# Altium schematic symbol library GRM155R61E225KE11J.SchLib: 1 symbol
Pins are listed as number, name and electrical type; pins without a type are passive.

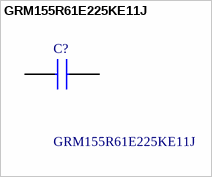
[diagram p0: symbol GRM155R61E225KE11J]

## GRM155R61E225KE11J
designator C?
Capacitor GRM15_0.20 L=1.0mm W=0.5mm T=0.5mm; Manufacturer_Name: Murata Electronics; Geometry.Height: 0.55mm; Mouser Part Number: 81-GRM155R61E225KE1J; Mouser Price/Stock: https://www.mouser.co.uk/ProductDetail/Murata-Electronics/GRM155R61E225KE11J?qs=hNud%2FORuBR06C%252Bqc4RmIYw%3D%3D; Manufacturer_Part_Number: GRM155R61E225KE11J; Datasheet Link: http://www.murata.com/~/media/webrenewal/support/library/catalog/products/capacitor/mlcc/c02e.pdf
footprint CAPC1005X55N
pins: 1, 2